# Altium schematic symbol library Analog Device.SchLib: 40 symbols
Pins are listed as number, name and electrical type; pins without a type are passive.

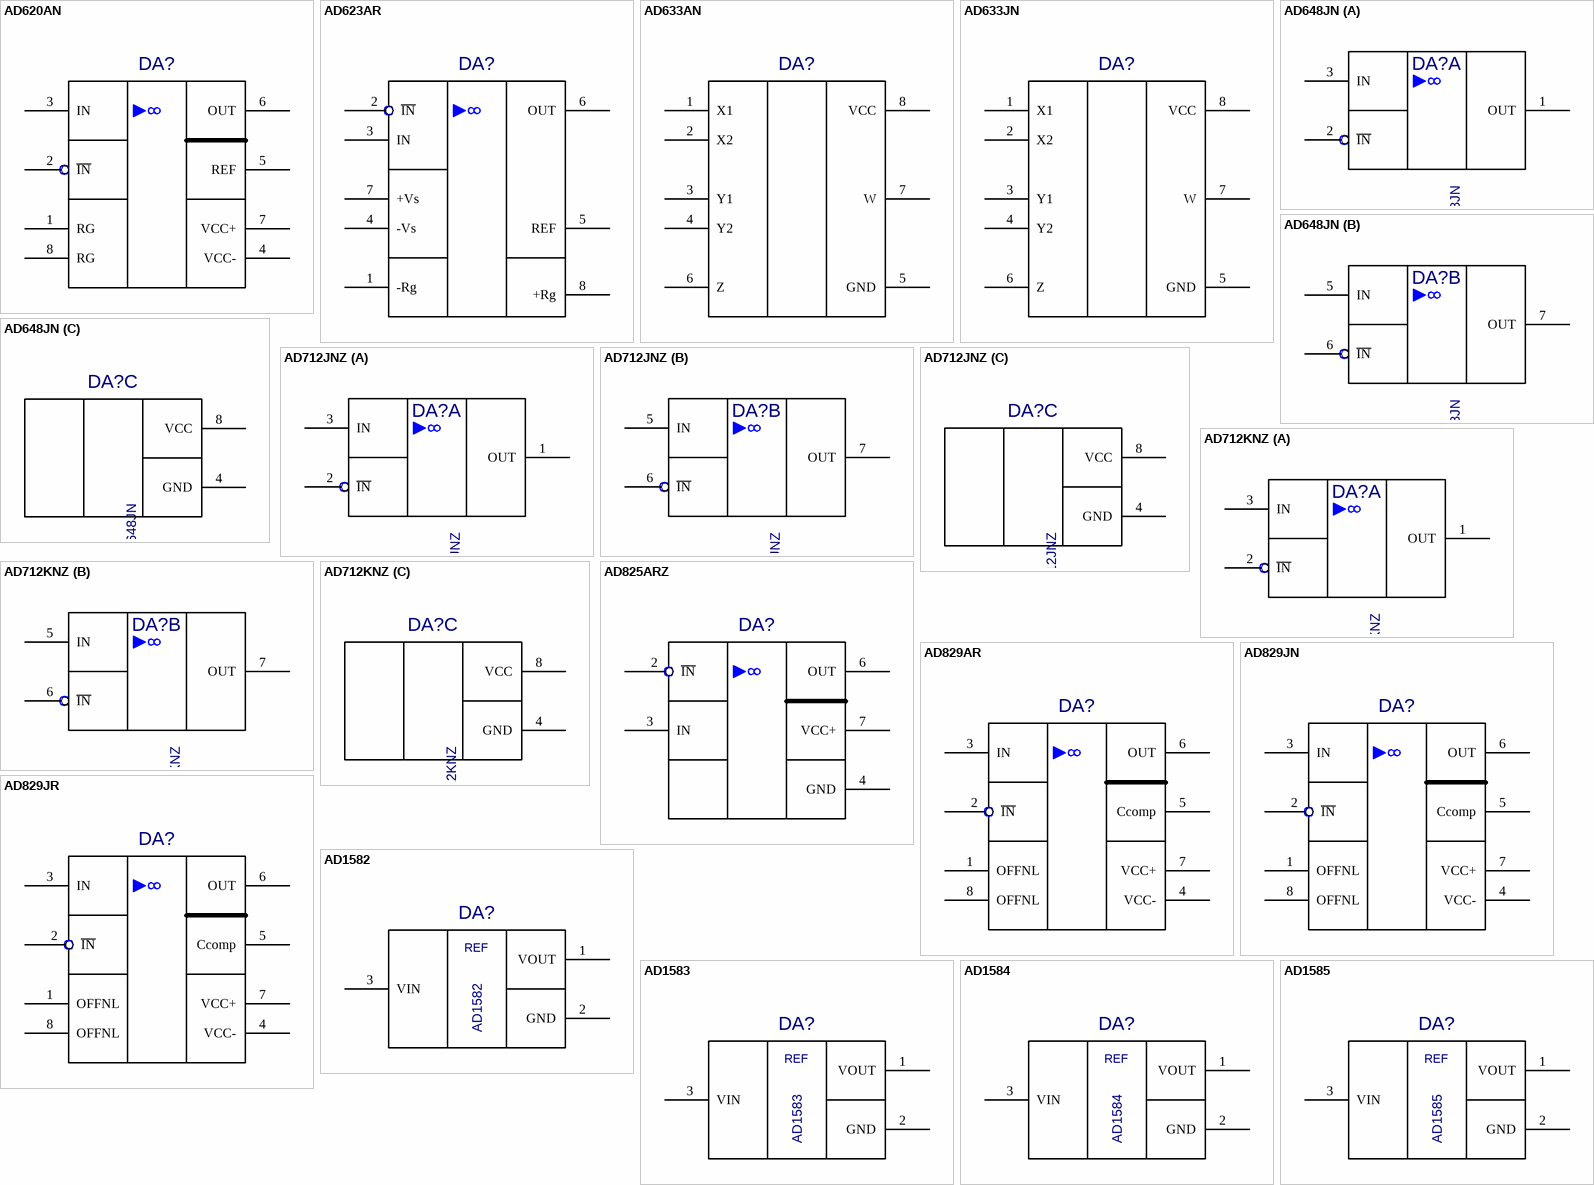
[diagram p0: symbols AD620AN to AD1585]

## AD620AN
designator DA?  (value not drawn)
Value: *
footprint 2101.8-1
pins: 1 RG, 2 ~{IN}, 3 IN, 4 VCC-, 5 REF, 6 OUT, 7 VCC+, 8 RG

## AD623AR
designator DA?  (value not drawn)
Value: *
footprint SO-8
pins: 1 -Rg, 2 ~{IN}, 3 IN, 4 -Vs, 5 REF, 6 OUT, 7 +Vs, 8 +Rg

## AD633AN
designator DA?  (value not drawn)
Author: pcbdesigner.ru; Value: *
footprint DIP-8(2002_7P62X2P54))
pins: 1 X1, 2 X2, 3 Y1, 4 Y2, 5 GND, 6 Z, 7 W, 8 VCC

## AD633JN
designator DA?  (value not drawn)
Author: pcbdesigner.ru; Value: *
footprint DIP-8(2002_7P62X2P54))
pins: 1 X1, 2 X2, 3 Y1, 4 Y2, 5 GND, 6 Z, 7 W, 8 VCC

## AD648JN
designator DA?
Value: *
footprint DIP-8(2002_7P62X2P54))
part A pins: 1 OUT, 2 ~{IN}, 3 IN
part B pins: 5 IN, 6 ~{IN}, 7 OUT
part C pins: 4 GND, 8 VCC

## AD712JNZ
designator DA?
Value: *
footprint DIP-8(2002_7P62X2P54))
part A pins: 1 OUT, 2 ~{IN}, 3 IN
part B pins: 5 IN, 6 ~{IN}, 7 OUT
part C pins: 4 GND, 8 VCC

## AD712KNZ
designator DA?
Value: *
footprint DIP-8(2002_7P62X2P54))
part A pins: 1 OUT, 2 ~{IN}, 3 IN
part B pins: 5 IN, 6 ~{IN}, 7 OUT
part C pins: 4 GND, 8 VCC

## AD825ARZ
designator DA?  (value not drawn)
Value: *
footprint SO-8
pins: 1 hidden, 2 ~{IN}, 3 IN, 4 GND, 5 hidden, 6 OUT, 7 VCC+, 8 hidden

## AD829AR
designator DA?  (value not drawn)
Value: *
footprint SO-8
pins: 1 OFFNL, 2 ~{IN}, 3 IN, 4 VCC-, 5 Ccomp, 6 OUT, 7 VCC+, 8 OFFNL

## AD829JN
designator DA?  (value not drawn)
Value: *
footprint DIP-8(2002_7P62X2P54))
pins: 1 OFFNL, 2 ~{IN}, 3 IN, 4 VCC-, 5 Ccomp, 6 OUT, 7 VCC+, 8 OFFNL

## AD829JR
designator DA?  (value not drawn)
Value: *
footprint SO-8
pins: 1 OFFNL, 2 ~{IN}, 3 IN, 4 VCC-, 5 Ccomp, 6 OUT, 7 VCC+, 8 OFFNL

## AD1582
designator DA?
Value: *
footprint SOT-23
pins: 1 VOUT, 2 GND, 3 VIN
text: REF

## AD1583
designator DA?
Value: *
footprint SOT-23
pins: 1 VOUT, 2 GND, 3 VIN
text: REF

## AD1584
designator DA?
Value: *
footprint SOT-23
pins: 1 VOUT, 2 GND, 3 VIN
text: REF

## AD1585
designator DA?
Value: *
footprint SOT-23
pins: 1 VOUT, 2 GND, 3 VIN
text: REF

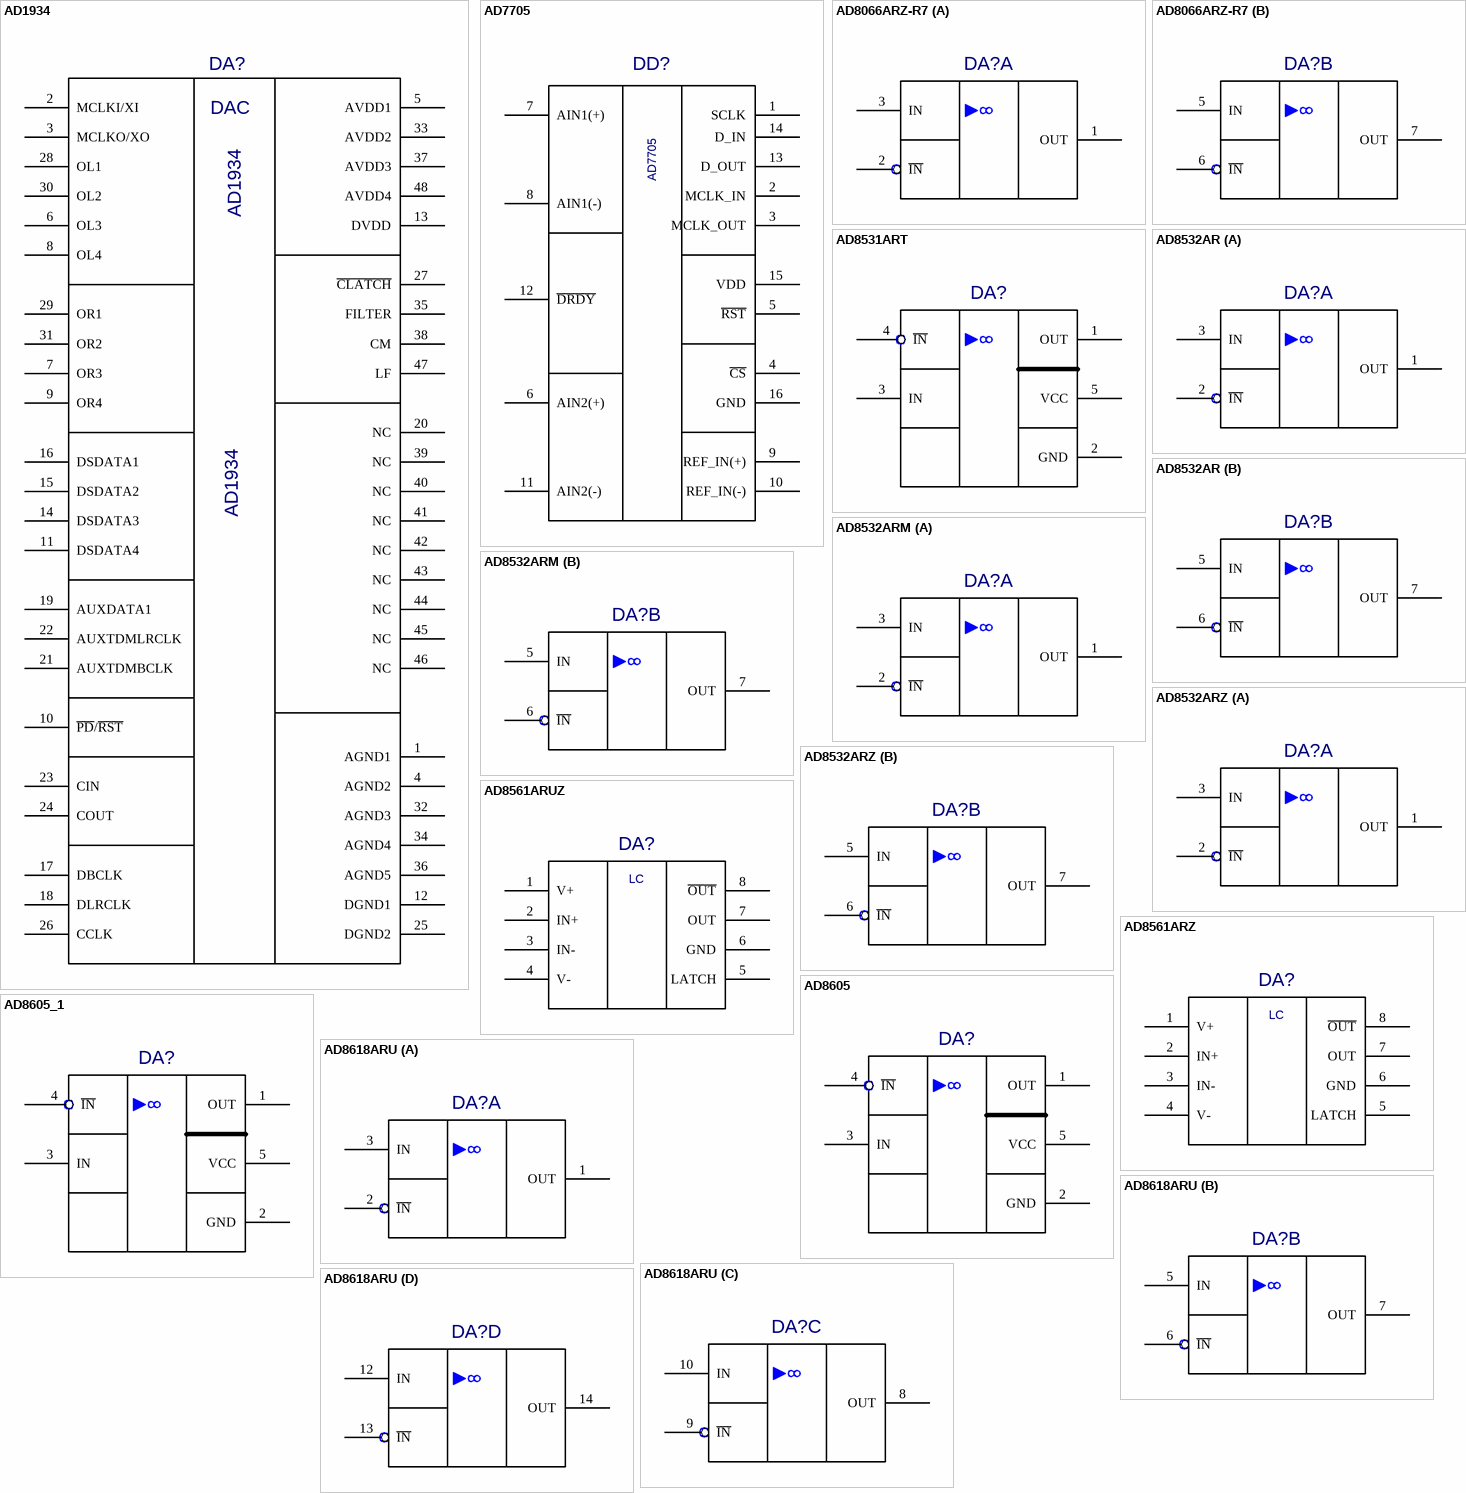
[diagram p1: symbols AD1934 to AD8618ARU]

## AD1934
designator DA?
Value: *
footprint LQFP-48(7X7_P_05)
pins: 1 AGND1, 2 MCLKI/XI, 3 MCLKO/XO, 4 AGND2, 5 AVDD1, 6 OL3, 7 OR3, 8 OL4, 9 OR4, 10 ~{PD}/~{RST}, 11 DSDATA4, 12 DGND1, 13 DVDD, 14 DSDATA3, 15 DSDATA2, 16 DSDATA1, 17 DBCLK, 18 DLRCLK, 19 AUXDATA1, 20 NC, 21 AUXTDMBCLK, 22 AUXTDMLRCLK, 23 CIN, 24 COUT, 25 DGND2, 26 CCLK, 27 ~{CLATCH}, 28 OL1, 29 OR1, 30 OL2, 31 OR2, 32 AGND3, 33 AVDD2, 34 AGND4, 35 FILTER, 36 AGND5, 37 AVDD3, 38 CM, 39 NC, 40 NC, 41 NC, 42 NC, 43 NC, 44 NC, 45 NC, 46 NC, 47 LF, 48 AVDD4
text: DAC

## AD7705
designator DD?  (value not drawn)
Author: pcbdesigner.ru; Value: *
footprint DIP-16
pins: 1 SCLK, 2 MCLK_IN, 3 MCLK_OUT, 4 ~{CS}, 5 ~{RST}, 6 AIN2(+), 7 AIN1(+), 8 AIN1(-), 9 REF_IN(+), 10 REF_IN(-), 11 AIN2(-), 12 ~{DRDY}, 13 D_OUT, 14 D_IN, 15 VDD, 16 GND

## AD8066ARZ-R7
designator DA?  (value not drawn)
Value: *
footprint SOIC-8
pins on every part: 4 GND (power) hidden, 8 VCC (power) hidden
part A pins: 1 OUT, 2 ~{IN}, 3 IN
part B pins: 5 IN, 6 ~{IN}, 7 OUT

## AD8531ART
designator DA?  (value not drawn)
Value: *
footprint SOT-23-5
pins: 1 OUT, 2 GND, 3 IN, 4 ~{IN}, 5 VCC

## AD8532AR
designator DA?  (value not drawn)
Value: *
footprint SO-8
pins on every part: 4 GND (power) hidden, 8 VCC (power) hidden
part A pins: 1 OUT, 2 ~{IN}, 3 IN
part B pins: 5 IN, 6 ~{IN}, 7 OUT

## AD8532ARM
designator DA?  (value not drawn)
Value: *
footprint SO-8
pins on every part: 4 GND (power) hidden, 8 VCC (power) hidden
part A pins: 1 OUT, 2 ~{IN}, 3 IN
part B pins: 5 IN, 6 ~{IN}, 7 OUT

## AD8532ARZ
designator DA?  (value not drawn)
Value: *
footprint SO-8
pins on every part: 4 GND (power) hidden, 8 VCC (power) hidden
part A pins: 1 OUT, 2 ~{IN}, 3 IN
part B pins: 5 IN, 6 ~{IN}, 7 OUT

## AD8561ARUZ
designator DA?  (value not drawn)
Author: pcbdesigner.ru; Value: *
footprint SOIC-8
pins: 1 V+, 2 IN+, 3 IN-, 4 V-, 5 LATCH, 6 GND, 7 OUT, 8 ~{OUT}
text: LC

## AD8561ARZ
designator DA?  (value not drawn)
Author: pcbdesigner.ru; Value: *
footprint SO8-R8
pins: 1 V+, 2 IN+, 3 IN-, 4 V-, 5 LATCH, 6 GND, 7 OUT, 8 ~{OUT}
text: LC

## AD8605
designator DA?  (value not drawn)
Value: *
footprint SOT-23-5
pins: 1 OUT, 2 GND, 3 IN, 4 ~{IN}, 5 VCC

## AD8605_1
designator DA?  (value not drawn)
Value: *
footprint SOT-23-5
pins: 1 OUT, 2 GND, 3 IN, 4 ~{IN}, 5 VCC

## AD8618ARU
designator DA?  (value not drawn)
Value: *
footprint TSSOP-14 (RU-14)
pins on every part: 4 VCC (power) hidden, 11 GND (power) hidden
part A pins: 1 OUT, 2 ~{IN}, 3 IN
part B pins: 5 IN, 6 ~{IN}, 7 OUT
part C pins: 8 OUT, 9 ~{IN}, 10 IN
part D pins: 12 IN, 13 ~{IN}, 14 OUT

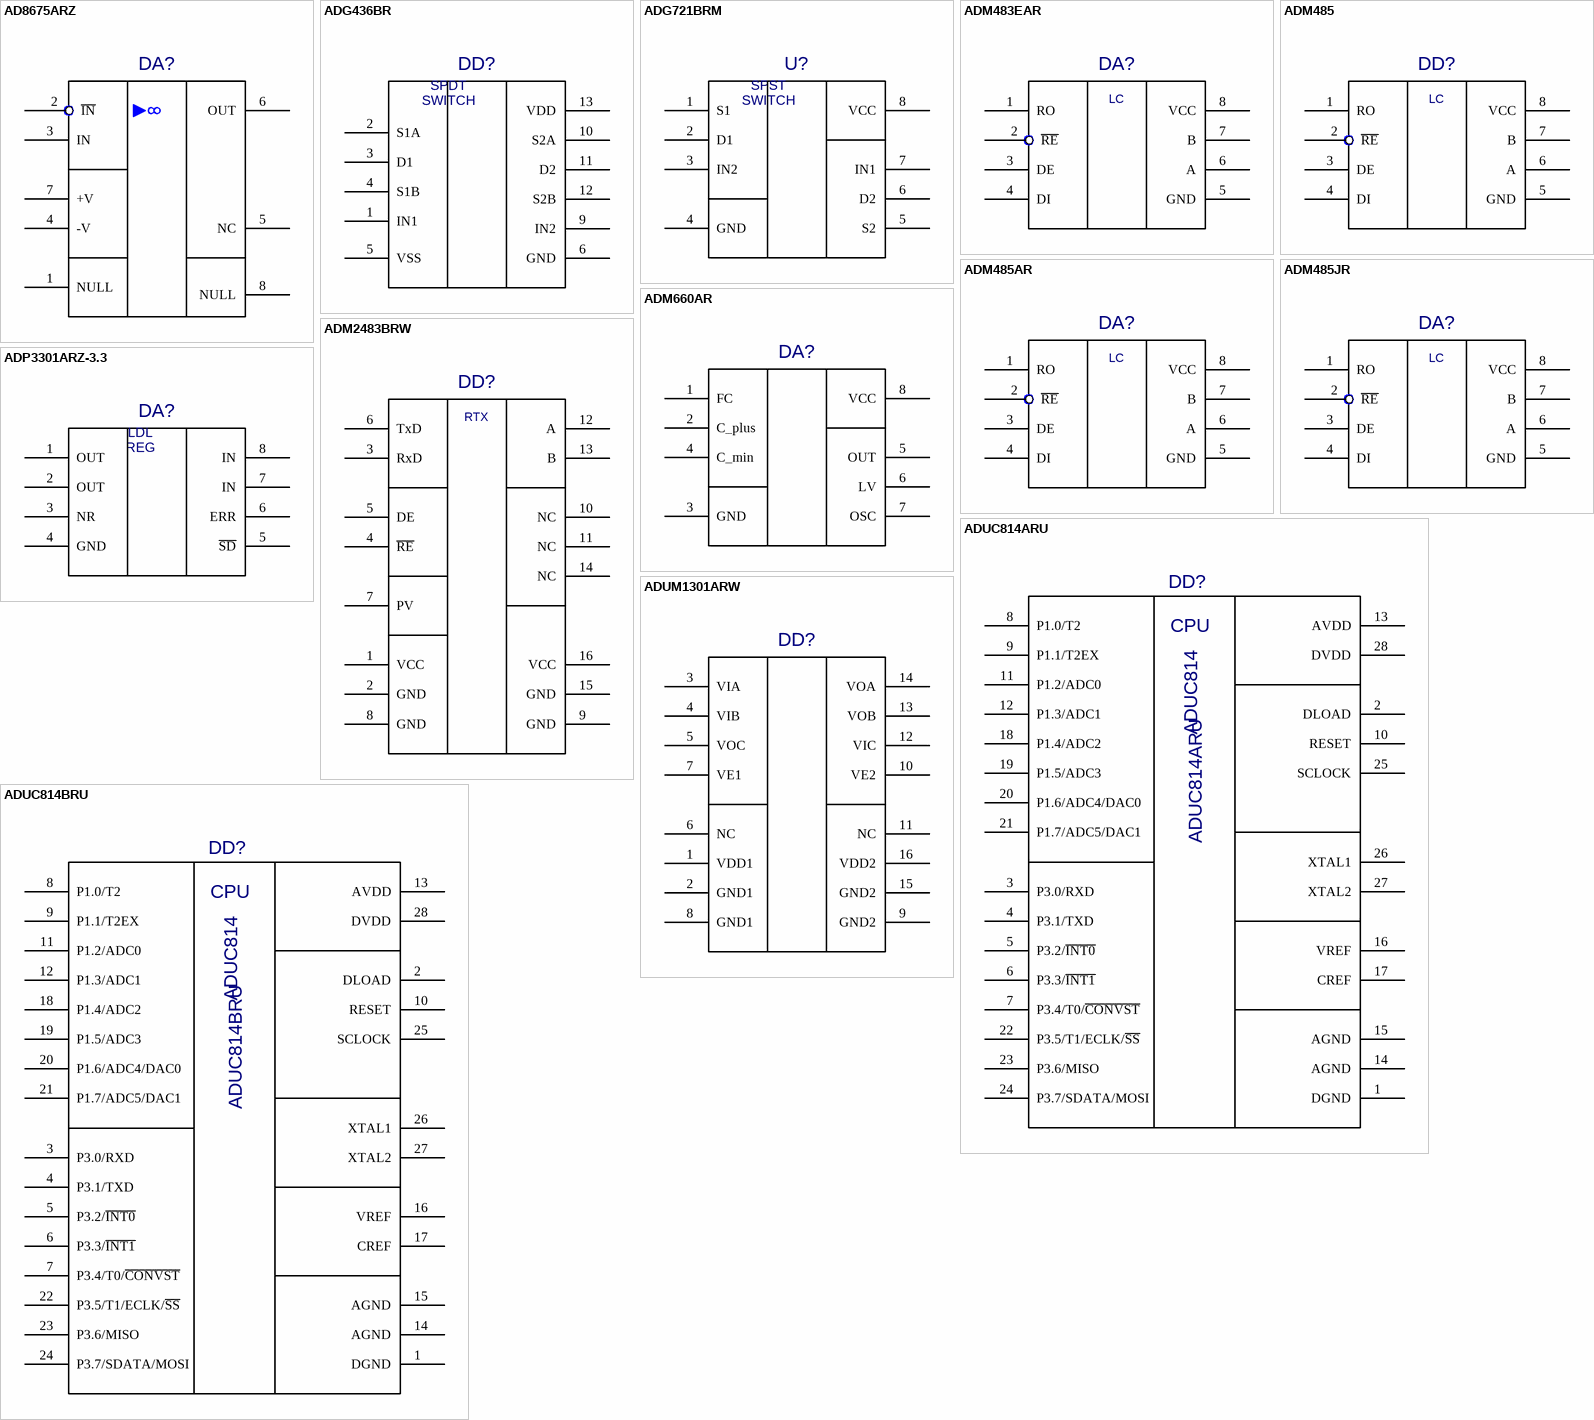
[diagram p2: symbols AD8675ARZ to ADUM1301ARW]

## AD8675ARZ
designator DA?  (value not drawn)
Value: *
footprint SOIC-8
pins: 1 NULL, 2 ~{IN}, 3 IN, 4 -V, 5 NC, 6 OUT, 7 +V, 8 NULL

## ADG436BR
designator DD?  (value not drawn)
Author: pcbdesigner.ru; Value: *
footprint SO-16
pins: 1 IN1, 2 S1A, 3 D1, 4 S1B, 5 VSS, 6 GND, 7 hidden, 8 hidden, 9 IN2, 10 S2A, 11 D2, 12 S2B, 13 VDD, 14 hidden, 15 hidden, 16 hidden
text: SPDT; SWITCH

## ADG721BRM
designator U?  (value not drawn)
Author: pcbdesigner.ru; Value: *
footprint MSOP-8 (RM-8)
pins: 1 S1, 2 D1, 3 IN2, 4 GND, 5 S2, 6 D2, 7 IN1, 8 VCC
text: SPST; SWITCH

## ADM483EAR
designator DA?  (value not drawn)
Author: pcbdesigner.ru; Value: *
footprint SO-8
pins: 1 RO, 2 ~{RE}, 3 DE, 4 DI, 5 GND, 6 A, 7 B, 8 VCC
text: LC

## ADM485
designator DD?  (value not drawn)
Author: pcbdesigner.ru; Value: *
footprint 2101.8-1
pins: 1 RO, 2 ~{RE}, 3 DE, 4 DI, 5 GND, 6 A, 7 B, 8 VCC
text: LC

## ADM485AR
designator DA?  (value not drawn)
Author: pcbdesigner.ru; Value: *
footprint SO-8
pins: 1 RO, 2 ~{RE}, 3 DE, 4 DI, 5 GND, 6 A, 7 B, 8 VCC
text: LC

## ADM485JR
designator DA?  (value not drawn)
Author: pcbdesigner.ru; Value: *
footprint SO-8
pins: 1 RO, 2 ~{RE}, 3 DE, 4 DI, 5 GND, 6 A, 7 B, 8 VCC
text: LC

## ADM660AR
designator DA?  (value not drawn)
Author: pcbdesigner.ru; Value: *
footprint SO-8
pins: 1 FC, 2 C_plus, 3 GND, 4 C_min, 5 OUT, 6 LV, 7 OSC, 8 VCC

## ADM2483BRW
designator DD?  (value not drawn)
Author: pcbdesigner.ru; Value: *
footprint SOIC-16
pins: 1 VCC, 2 GND, 3 RxD, 4 ~{RE}, 5 DE, 6 TxD, 7 PV, 8 GND, 9 GND, 10 NC, 11 NC, 12 A, 13 B, 14 NC, 15 GND, 16 VCC
text: RTX

## ADP3301ARZ-3.3
designator DA?  (value not drawn)
Author: pcbdesigner.ru; Value: *
footprint SOIC-8
pins: 1 OUT, 2 OUT, 3 NR, 4 GND, 5 ~{SD}, 6 ERR, 7 IN, 8 IN
text: LDL; REG

## ADUC814ARU
designator DD?
Value: *
footprint TSSOP-28(RU-28)
pins: 1 DGND, 2 DLOAD, 3 P3.0/RXD, 4 P3.1/TXD, 5 P3.2/~{INT0}, 6 P3.3/~{INT1}, 7 P3.4/T0/~{CONVST}, 8 P1.0/T2, 9 P1.1/T2EX, 10 RESET, 11 P1.2/ADC0, 12 P1.3/ADC1, 13 AVDD, 14 AGND, 15 AGND, 16 VREF, 17 CREF, 18 P1.4/ADC2, 19 P1.5/ADC3, 20 P1.6/ADC4/DAC0, 21 P1.7/ADC5/DAC1, 22 P3.5/T1/ECLK/~{SS}, 23 P3.6/MISO, 24 P3.7/SDATA/MOSI, 25 SCLOCK, 26 XTAL1, 27 XTAL2, 28 DVDD
text: CPU; ADUC814

## ADUC814BRU
designator DD?
Value: *
footprint TSSOP-28(RU-28)
pins: 1 DGND, 2 DLOAD, 3 P3.0/RXD, 4 P3.1/TXD, 5 P3.2/~{INT0}, 6 P3.3/~{INT1}, 7 P3.4/T0/~{CONVST}, 8 P1.0/T2, 9 P1.1/T2EX, 10 RESET, 11 P1.2/ADC0, 12 P1.3/ADC1, 13 AVDD, 14 AGND, 15 AGND, 16 VREF, 17 CREF, 18 P1.4/ADC2, 19 P1.5/ADC3, 20 P1.6/ADC4/DAC0, 21 P1.7/ADC5/DAC1, 22 P3.5/T1/ECLK/~{SS}, 23 P3.6/MISO, 24 P3.7/SDATA/MOSI, 25 SCLOCK, 26 XTAL1, 27 XTAL2, 28 DVDD
text: CPU; ADUC814

## ADUM1301ARW
designator DD?  (value not drawn)
Author: pcbdesigner.ru; Value: *
footprint SOIC-16
pins: 1 VDD1, 2 GND1, 3 VIA, 4 VIB, 5 VOC, 6 NC, 7 VE1, 8 GND1, 9 GND2, 10 VE2, 11 NC, 12 VIC, 13 VOB, 14 VOA, 15 GND2, 16 VDD2